# Altium schematic symbol library ADS8691IPW.Schlib: 1 symbol
Pins are listed as number, name and electrical type; pins without a type are passive.

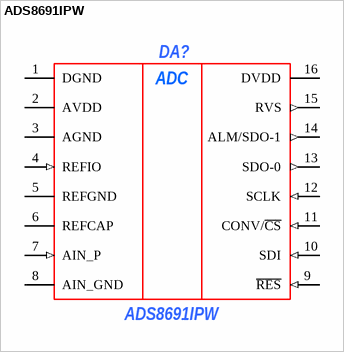
[diagram p0: symbol ADS8691IPW]

## ADS8691IPW
designator DA?
ADC, SAR, 18-bit, bipolar range; ComponentLink1Description: *; ComponentLink1URL: *; ComponentLink2Description: *; ComponentLink2URL: *; ManufacturerPartNumber: ADS8691IPW; Power/Voltage: *; Rem: *; TKE: *; Tolerance: *; TU/GOST: *; Value: *; Корпус: *; Примечание: *; Manufacturer: *; Author: *; Type: *
footprint TSSOP-16
pins: 1 DGND (power), 2 AVDD (power), 3 AGND (power), 4 REFIO (in), 5 REFGND (power), 6 REFCAP, 7 AIN_P (in), 8 AIN_GND (power), 9 ~{RES} (in), 10 SDI (in), 11 CONV/~{CS} (in), 12 SCLK (in), 13 SDO-0 (out), 14 ALM/SDO-1 (out), 15 RVS (out), 16 DVDD (power)
text: ADC